# Altium schematic symbol library Projector_TI.SchLib: 6 symbols
Pins are listed as number, name and electrical type; pins without a type are passive.

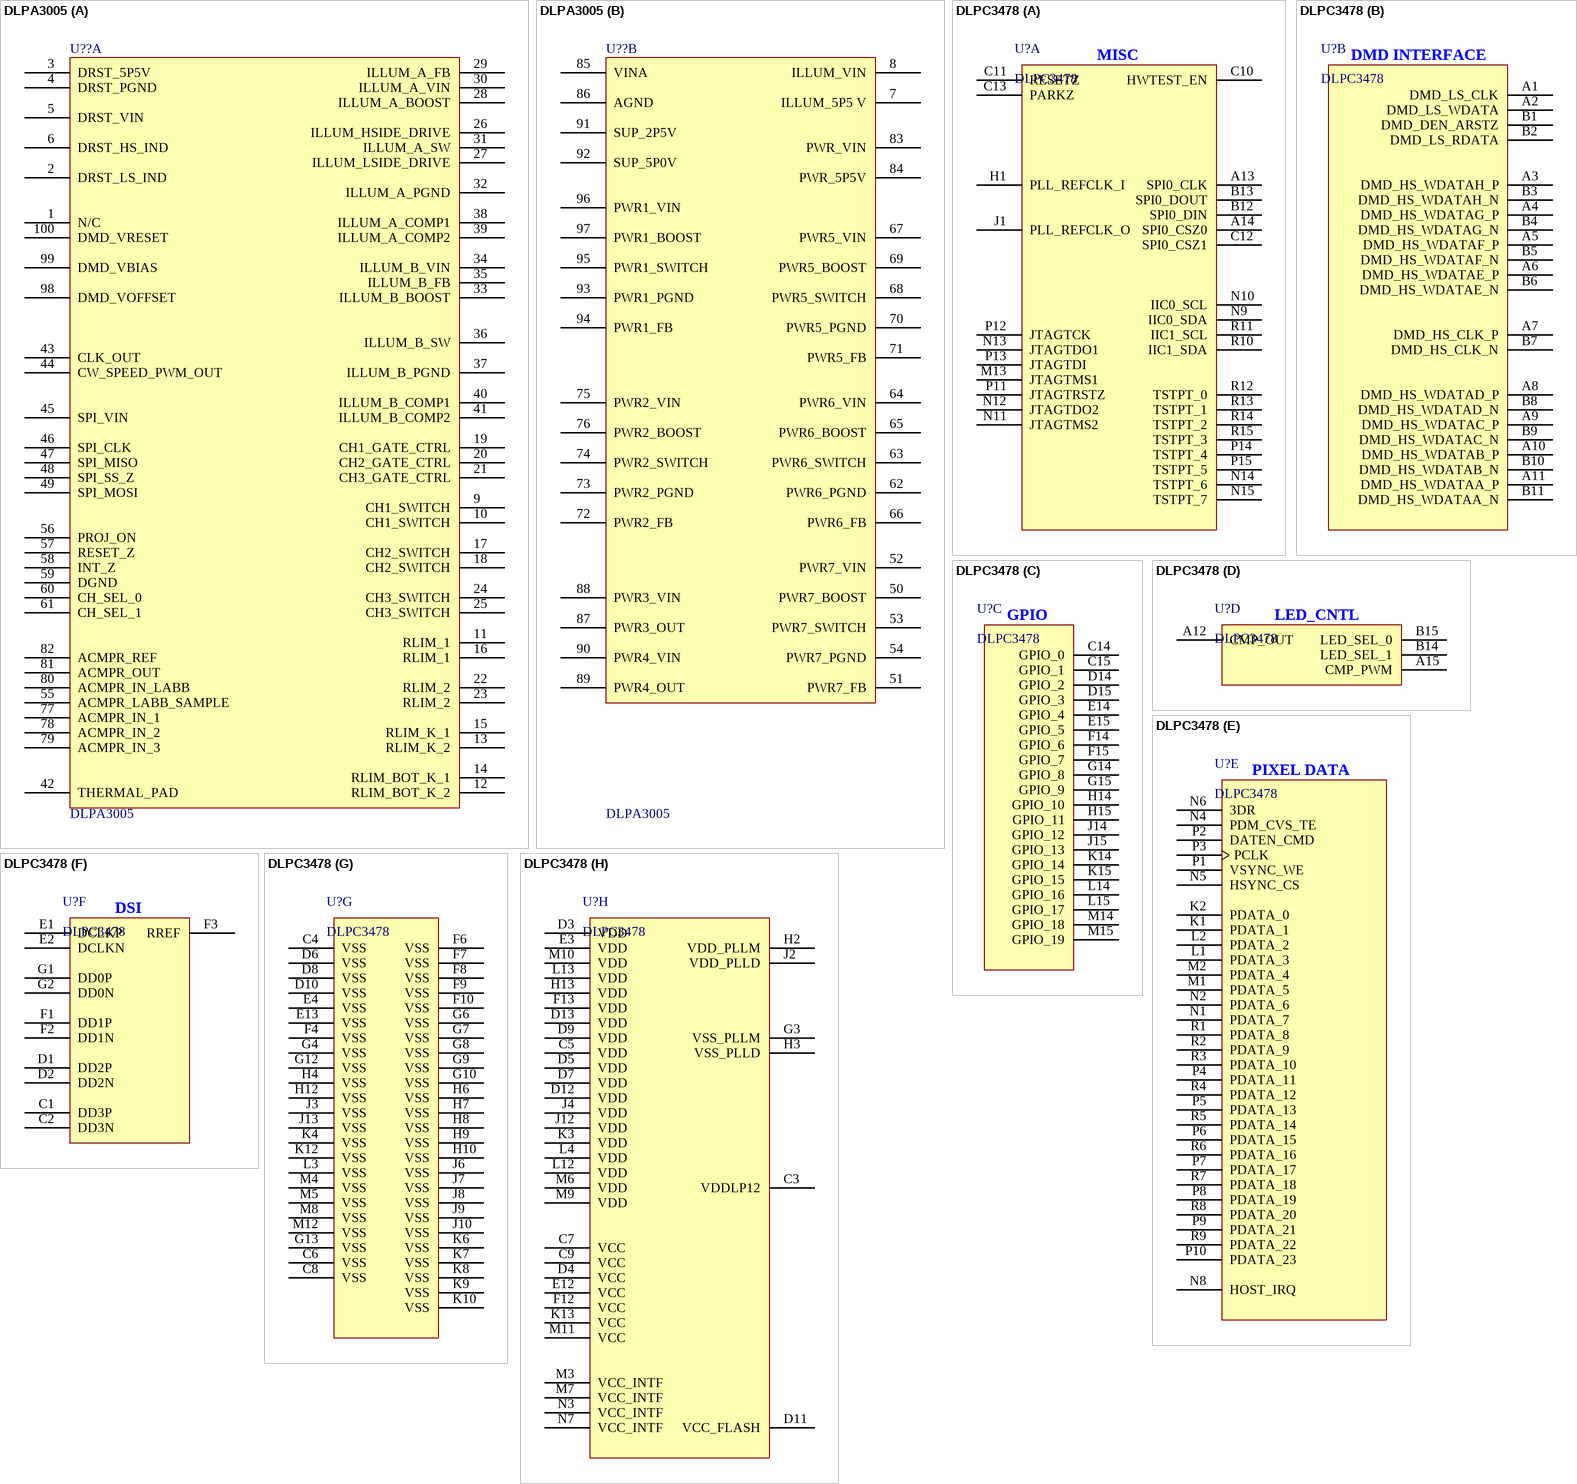
[diagram p0: symbols DLPA3005 to DLPC3478]

## DLPA3005
designator U??
DLPA3005 PMIC and High-Current LED Driver IC
footprint LQFP-100_14x14mm_P0.5mm (TSQFP, 100-Leads, Body 14.00x14.00mm, Pitch 0.50mm, IPC Medium Density)
part A pins: 1 N/C, 2 DRST_LS_IND, 3 DRST_5P5V, 4 DRST_PGND, 5 DRST_VIN, 6 DRST_HS_IND, 9 CH1_SWITCH, 10 CH1_SWITCH, 11 RLIM_1, 12 RLIM_BOT_K_2, 13 RLIM_K_2, 14 RLIM_BOT_K_1, 15 RLIM_K_1, 16 RLIM_1, 17 CH2_SWITCH, 18 CH2_SWITCH, 19 CH1_GATE_CTRL, 20 CH2_GATE_CTRL, 21 CH3_GATE_CTRL, 22 RLIM_2, 23 RLIM_2, 24 CH3_SWITCH, 25 CH3_SWITCH, 26 ILLUM_HSIDE_DRIVE, 27 ILLUM_LSIDE_DRIVE, 28 ILLUM_A_BOOST, 29 ILLUM_A_FB, 30 ILLUM_A_VIN, 31 ILLUM_A_SW, 32 ILLUM_A_PGND, 33 ILLUM_B_BOOST, 34 ILLUM_B_VIN, 35 ILLUM_B_FB, 36 ILLUM_B_SW, 37 ILLUM_B_PGND, 38 ILLUM_A_COMP1, 39 ILLUM_A_COMP2, 40 ILLUM_B_COMP1, 41 ILLUM_B_COMP2, 42 THERMAL_PAD, 43 CLK_OUT, 44 CW_SPEED_PWM_OUT, 45 SPI_VIN, 46 SPI_CLK, 47 SPI_MISO, 48 SPI_SS_Z, 49 SPI_MOSI, 55 ACMPR_LABB_SAMPLE, 56 PROJ_ON, 57 RESET_Z, 58 INT_Z, 59 DGND, 60 CH_SEL_0, 61 CH_SEL_1, 77 ACMPR_IN_1, 78 ACMPR_IN_2, 79 ACMPR_IN_3, 80 ACMPR_IN_LABB, 81 ACMPR_OUT, 82 ACMPR_REF, 98 DMD_VOFFSET, 99 DMD_VBIAS, 100 DMD_VRESET
part B pins: 7 ILLUM_5P5 V, 8 ILLUM_VIN, 50 PWR7_BOOST, 51 PWR7_FB, 52 PWR7_VIN, 53 PWR7_SWITCH, 54 PWR7_PGND, 62 PWR6_PGND, 63 PWR6_SWITCH, 64 PWR6_VIN, 65 PWR6_BOOST, 66 PWR6_FB, 67 PWR5_VIN, 68 PWR5_SWITCH, 69 PWR5_BOOST, 70 PWR5_PGND, 71 PWR5_FB, 72 PWR2_FB, 73 PWR2_PGND, 74 PWR2_SWITCH, 75 PWR2_VIN, 76 PWR2_BOOST, 83 PWR_VIN, 84 PWR_5P5V, 85 VINA, 86 AGND, 87 PWR3_OUT, 88 PWR3_VIN, 89 PWR4_OUT, 90 PWR4_VIN, 91 SUP_2P5V, 92 SUP_5P0V, 93 PWR1_PGND, 94 PWR1_FB, 95 PWR1_SWITCH, 96 PWR1_VIN, 97 PWR1_BOOST

## DLPC3478
designator U?
DLPC3478 Display and Light Controller
footprint BGA_13x13mm_P0.8mm_201P (BGA, 80-Leads, Body 13.00x13.00mmx1.00mm, Pitch 0.80mm)
part A pins: A13 SPI0_CLK, A14 SPI0_CSZ0, B12 SPI0_DIN, B13 SPI0_DOUT, C10 HWTEST_EN, C11 RESETZ, C12 SPI0_CSZ1, C13 PARKZ, H1 PLL_REFCLK_I, J1 PLL_REFCLK_O, M13 JTAGTMS1, N9 IIC0_SDA, N10 IIC0_SCL, N11 JTAGTMS2, N12 JTAGTDO2, N13 JTAGTDO1, N14 TSTPT_6, N15 TSTPT_7, P11 JTAGTRSTZ, P12 JTAGTCK, P13 JTAGTDI, P14 TSTPT_4, P15 TSTPT_5, R10 IIC1_SDA, R11 IIC1_SCL, R12 TSTPT_0, R13 TSTPT_1, R14 TSTPT_2, R15 TSTPT_3
part B pins: A1 DMD_LS_CLK, A2 DMD_LS_WDATA, A3 DMD_HS_WDATAH_P, A4 DMD_HS_WDATAG_P, A5 DMD_HS_WDATAF_P, A6 DMD_HS_WDATAE_P, A7 DMD_HS_CLK_P, A8 DMD_HS_WDATAD_P, A9 DMD_HS_WDATAC_P, A10 DMD_HS_WDATAB_P, A11 DMD_HS_WDATAA_P, B1 DMD_DEN_ARSTZ, B2 DMD_LS_RDATA, B3 DMD_HS_WDATAH_N, B4 DMD_HS_WDATAG_N, B5 DMD_HS_WDATAF_N, B6 DMD_HS_WDATAE_N, B7 DMD_HS_CLK_N, B8 DMD_HS_WDATAD_N, B9 DMD_HS_WDATAC_N, B10 DMD_HS_WDATAB_N, B11 DMD_HS_WDATAA_N
part C pins: C14 GPIO_0, C15 GPIO_1, D14 GPIO_2, D15 GPIO_3, E14 GPIO_4, E15 GPIO_5, F14 GPIO_6, F15 GPIO_7, G14 GPIO_8, G15 GPIO_9, H14 GPIO_10, H15 GPIO_11, J14 GPIO_12, J15 GPIO_13, K14 GPIO_14, K15 GPIO_15, L14 GPIO_16, L15 GPIO_17, M14 GPIO_18, M15 GPIO_19
part D pins: A12 CMP_OUT, A15 CMP_PWM, B14 LED_SEL_1, B15 LED_SEL_0
part E pins: K1 PDATA_1, K2 PDATA_0, L1 PDATA_3, L2 PDATA_2, M1 PDATA_5, M2 PDATA_4, N1 PDATA_7, N2 PDATA_6, N4 PDM_CVS_TE, N5 HSYNC_CS, N6 3DR, N8 HOST_IRQ, P1 VSYNC_WE, P2 DATEN_CMD, P3 PCLK, P4 PDATA_11, P5 PDATA_13, P6 PDATA_15, P7 PDATA_17, P8 PDATA_19, P9 PDATA_21, P10 PDATA_23, R1 PDATA_8, R2 PDATA_9, R3 PDATA_10, R4 PDATA_12, R5 PDATA_14, R6 PDATA_16, R7 PDATA_18, R8 PDATA_20, R9 PDATA_22
part F pins: C1 DD3P, C2 DD3N, D1 DD2P, D2 DD2N, E1 DCLKP, E2 DCLKN, F1 DD1P, F2 DD1N, F3 RREF, G1 DD0P, G2 DD0N
part G pins: C4 VSS, C6 VSS, C8 VSS, D6 VSS, D8 VSS, D10 VSS, E4 VSS, E13 VSS, F4 VSS, F6 VSS, F7 VSS, F8 VSS, F9 VSS, F10 VSS, G4 VSS, G6 VSS, G7 VSS, G8 VSS, G9 VSS, G10 VSS, G12 VSS, G13 VSS, H4 VSS, H6 VSS, H7 VSS, H8 VSS, H9 VSS, H10 VSS, H12 VSS, J3 VSS, J6 VSS, J7 VSS, J8 VSS, J9 VSS, J10 VSS, J13 VSS, K4 VSS, K6 VSS, K7 VSS, K8 VSS, K9 VSS, K10 VSS, K12 VSS, L3 VSS, M4 VSS, M5 VSS, M8 VSS, M12 VSS
part H pins: C3 VDDLP12, C5 VDD, C7 VCC, C9 VCC, D3 VDD, D4 VCC, D5 VDD, D7 VDD, D9 VDD, D11 VCC_FLASH, D12 VDD, D13 VDD, E3 VDD, E12 VCC, F12 VCC, F13 VDD, G3 VSS_PLLM, H2 VDD_PLLM, H3 VSS_PLLD, H13 VDD, J2 VDD_PLLD, J4 VDD, J12 VDD, K3 VDD, K13 VCC, L4 VDD, L12 VDD, L13 VDD, M3 VCC_INTF, M6 VDD, M7 VCC_INTF, M9 VDD, M10 VDD, M11 VCC, N3 VCC_INTF, N7 VCC_INTF
part A text: MISC
part B text: DMD INTERFACE
part C text: GPIO
part D text: LED_CNTL
part E text: PIXEL DATA
part F text: DSI

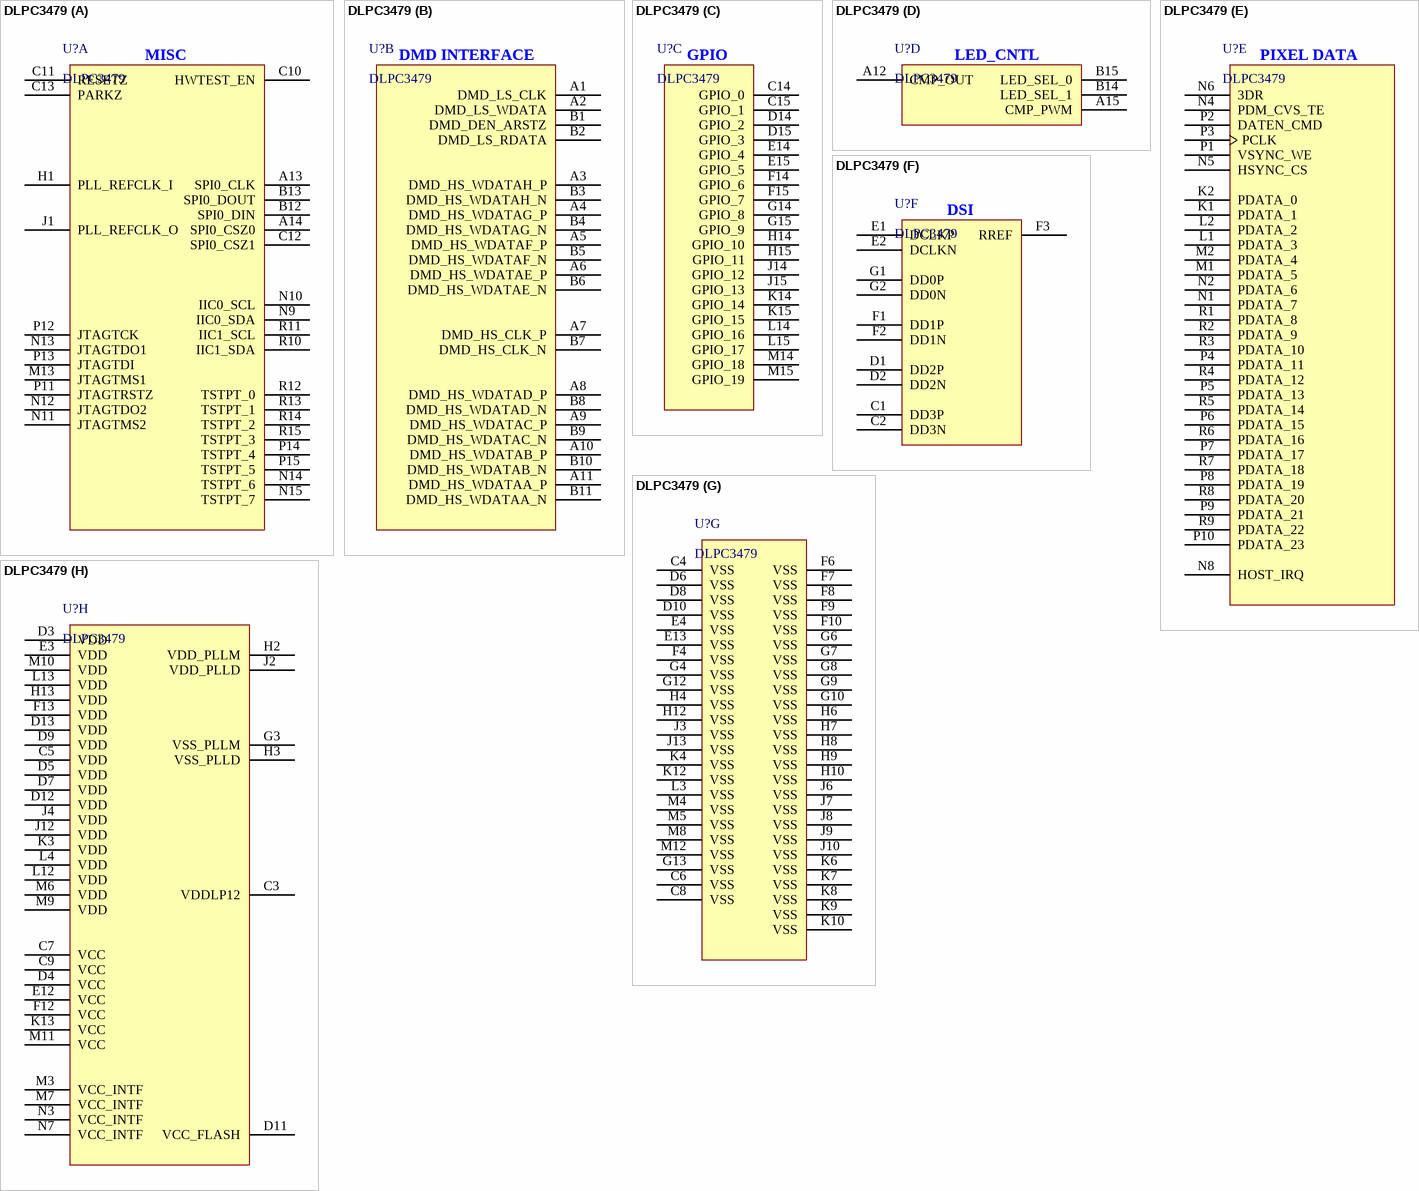
[diagram p1: symbol DLPC3479]

## DLPC3479
designator U?
DLPC3479 Display and Light Controller
footprint BGA_13x13mm_P0.8mm_201P (BGA, 80-Leads, Body 13.00x13.00mmx1.00mm, Pitch 0.80mm)
part A pins: A13 SPI0_CLK, A14 SPI0_CSZ0, B12 SPI0_DIN, B13 SPI0_DOUT, C10 HWTEST_EN, C11 RESETZ, C12 SPI0_CSZ1, C13 PARKZ, H1 PLL_REFCLK_I, J1 PLL_REFCLK_O, M13 JTAGTMS1, N9 IIC0_SDA, N10 IIC0_SCL, N11 JTAGTMS2, N12 JTAGTDO2, N13 JTAGTDO1, N14 TSTPT_6, N15 TSTPT_7, P11 JTAGTRSTZ, P12 JTAGTCK, P13 JTAGTDI, P14 TSTPT_4, P15 TSTPT_5, R10 IIC1_SDA, R11 IIC1_SCL, R12 TSTPT_0, R13 TSTPT_1, R14 TSTPT_2, R15 TSTPT_3
part B pins: A1 DMD_LS_CLK, A2 DMD_LS_WDATA, A3 DMD_HS_WDATAH_P, A4 DMD_HS_WDATAG_P, A5 DMD_HS_WDATAF_P, A6 DMD_HS_WDATAE_P, A7 DMD_HS_CLK_P, A8 DMD_HS_WDATAD_P, A9 DMD_HS_WDATAC_P, A10 DMD_HS_WDATAB_P, A11 DMD_HS_WDATAA_P, B1 DMD_DEN_ARSTZ, B2 DMD_LS_RDATA, B3 DMD_HS_WDATAH_N, B4 DMD_HS_WDATAG_N, B5 DMD_HS_WDATAF_N, B6 DMD_HS_WDATAE_N, B7 DMD_HS_CLK_N, B8 DMD_HS_WDATAD_N, B9 DMD_HS_WDATAC_N, B10 DMD_HS_WDATAB_N, B11 DMD_HS_WDATAA_N
part C pins: C14 GPIO_0, C15 GPIO_1, D14 GPIO_2, D15 GPIO_3, E14 GPIO_4, E15 GPIO_5, F14 GPIO_6, F15 GPIO_7, G14 GPIO_8, G15 GPIO_9, H14 GPIO_10, H15 GPIO_11, J14 GPIO_12, J15 GPIO_13, K14 GPIO_14, K15 GPIO_15, L14 GPIO_16, L15 GPIO_17, M14 GPIO_18, M15 GPIO_19
part D pins: A12 CMP_OUT, A15 CMP_PWM, B14 LED_SEL_1, B15 LED_SEL_0
part E pins: K1 PDATA_1, K2 PDATA_0, L1 PDATA_3, L2 PDATA_2, M1 PDATA_5, M2 PDATA_4, N1 PDATA_7, N2 PDATA_6, N4 PDM_CVS_TE, N5 HSYNC_CS, N6 3DR, N8 HOST_IRQ, P1 VSYNC_WE, P2 DATEN_CMD, P3 PCLK, P4 PDATA_11, P5 PDATA_13, P6 PDATA_15, P7 PDATA_17, P8 PDATA_19, P9 PDATA_21, P10 PDATA_23, R1 PDATA_8, R2 PDATA_9, R3 PDATA_10, R4 PDATA_12, R5 PDATA_14, R6 PDATA_16, R7 PDATA_18, R8 PDATA_20, R9 PDATA_22
part F pins: C1 DD3P, C2 DD3N, D1 DD2P, D2 DD2N, E1 DCLKP, E2 DCLKN, F1 DD1P, F2 DD1N, F3 RREF, G1 DD0P, G2 DD0N
part G pins: C4 VSS, C6 VSS, C8 VSS, D6 VSS, D8 VSS, D10 VSS, E4 VSS, E13 VSS, F4 VSS, F6 VSS, F7 VSS, F8 VSS, F9 VSS, F10 VSS, G4 VSS, G6 VSS, G7 VSS, G8 VSS, G9 VSS, G10 VSS, G12 VSS, G13 VSS, H4 VSS, H6 VSS, H7 VSS, H8 VSS, H9 VSS, H10 VSS, H12 VSS, J3 VSS, J6 VSS, J7 VSS, J8 VSS, J9 VSS, J10 VSS, J13 VSS, K4 VSS, K6 VSS, K7 VSS, K8 VSS, K9 VSS, K10 VSS, K12 VSS, L3 VSS, M4 VSS, M5 VSS, M8 VSS, M12 VSS
part H pins: C3 VDDLP12, C5 VDD, C7 VCC, C9 VCC, D3 VDD, D4 VCC, D5 VDD, D7 VDD, D9 VDD, D11 VCC_FLASH, D12 VDD, D13 VDD, E3 VDD, E12 VCC, F12 VCC, F13 VDD, G3 VSS_PLLM, H2 VDD_PLLM, H3 VSS_PLLD, H13 VDD, J2 VDD_PLLD, J4 VDD, J12 VDD, K3 VDD, K13 VCC, L4 VDD, L12 VDD, L13 VDD, M3 VCC_INTF, M6 VDD, M7 VCC_INTF, M9 VDD, M10 VDD, M11 VCC, N3 VCC_INTF, N7 VCC_INTF
part A text: MISC
part B text: DMD INTERFACE
part C text: GPIO
part D text: LED_CNTL
part E text: PIXEL DATA
part F text: DSI

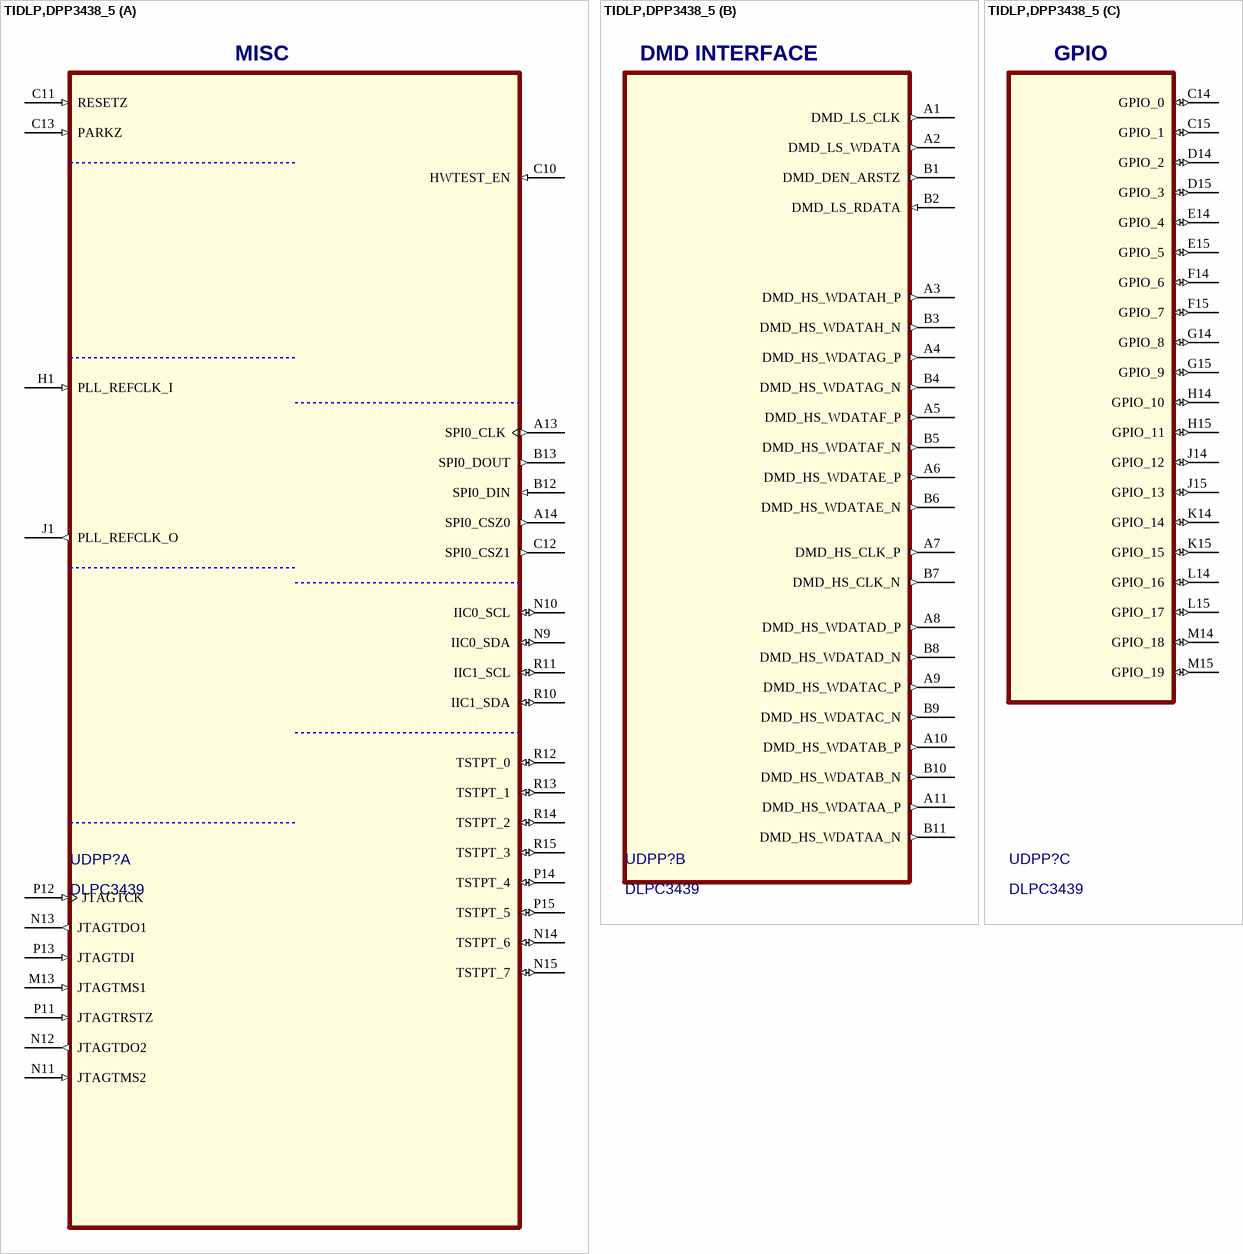
[diagram p2: symbol TIDLP,DPP3438_5]

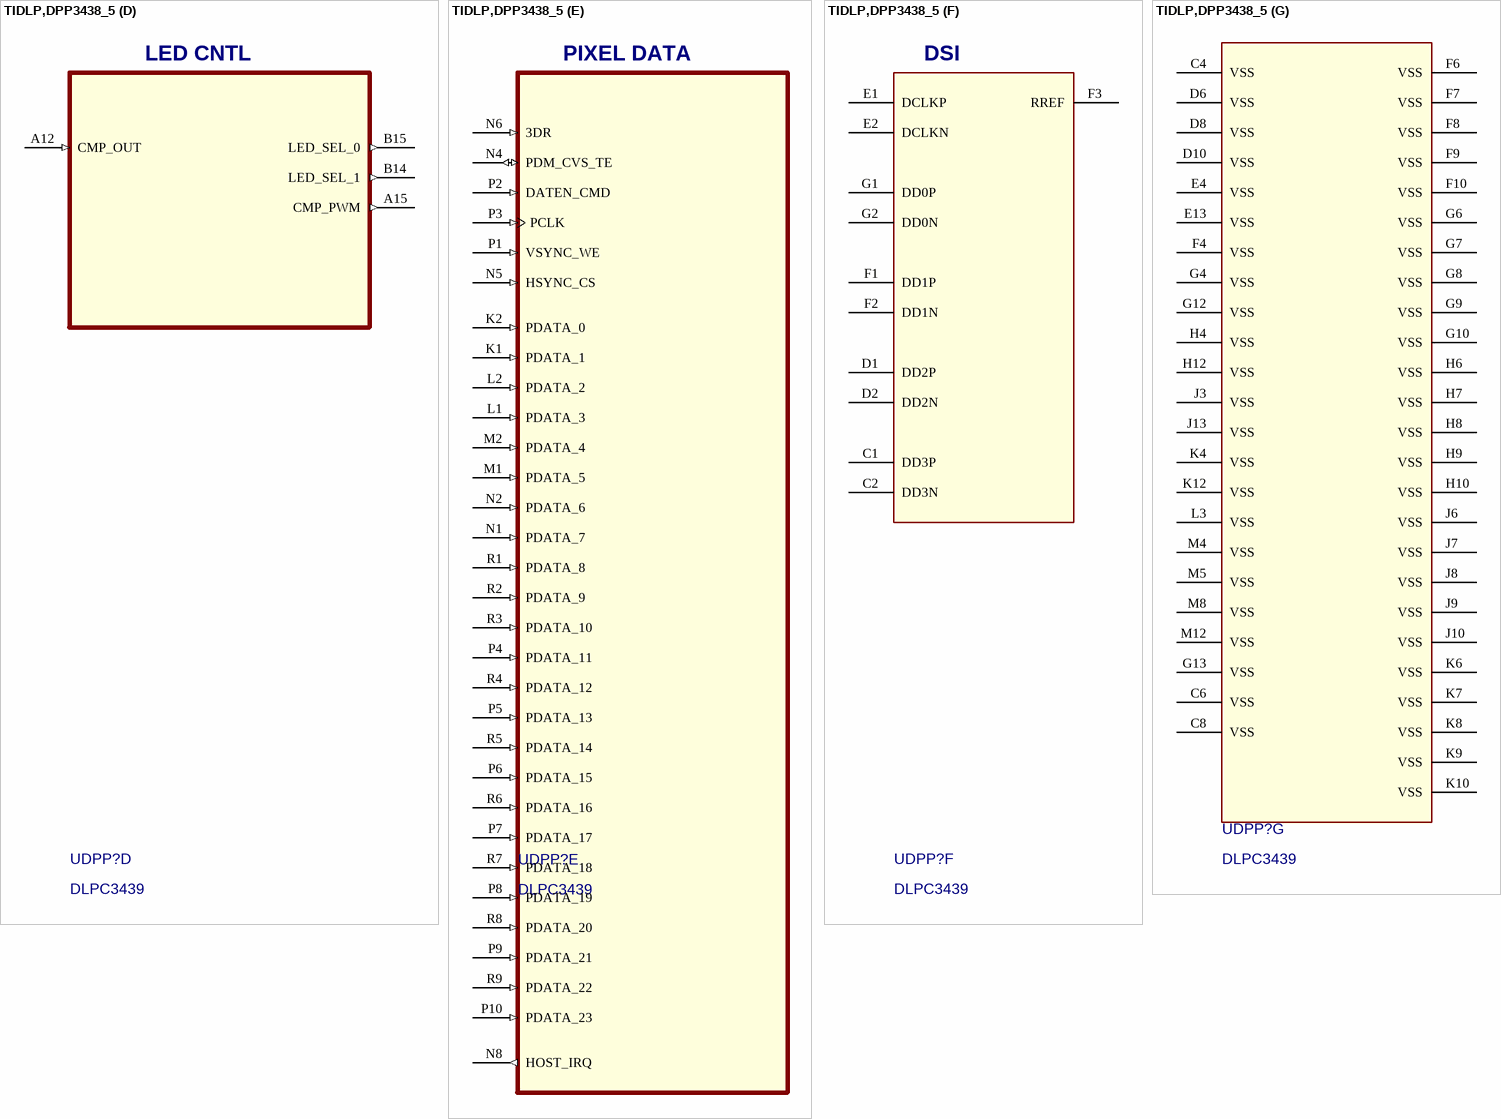
[diagram p3: symbol TIDLP,DPP3438_5]

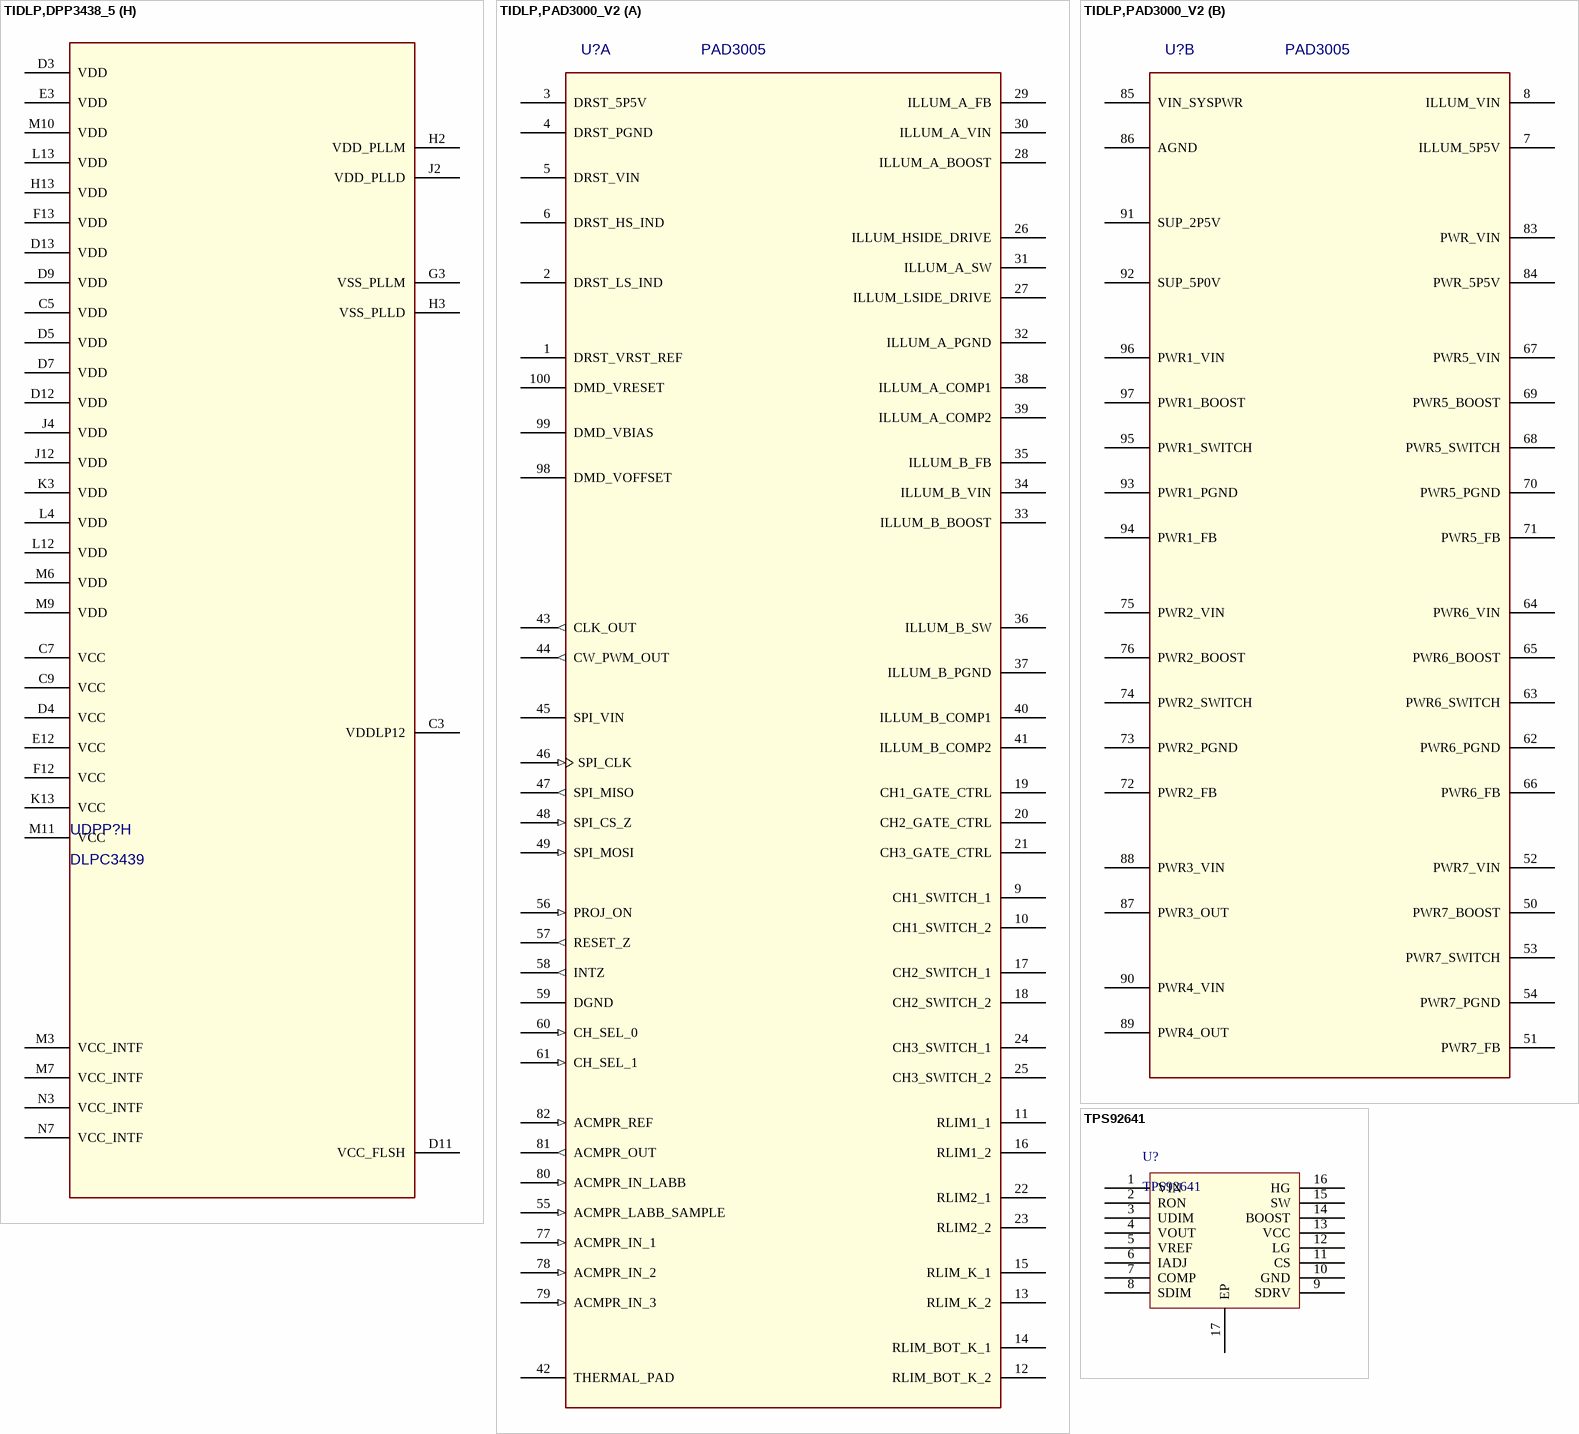
[diagram p4: symbols TIDLP,DPP3438_5 to TPS92641]

## TIDLP,DPP3438_5
designator UDPP?, comment DLPC3439
Install: Y; SPLIT_INST: TRUE; SWAP_INFO: (S1+S2+S3+S4+S5+S6+S7+S8+S9); Index PN: 1260; DigiReel: ---; P/D_NUM: 2512737-0092; Vendor: Texas Instruments; Package: Slave; DigiKey: ---; Part Number: 2512737-0092; MFG: Texas Instruments; Lead Style: SMT; Type: dlp; Family: processor
footprint BGA_13x13mm_P0.8mm_201P (BGA, 80-Leads, Body 13.00x13.00mmx1.00mm, Pitch 0.80mm)
part A pins: A13 SPI0_CLK (out), A14 SPI0_CSZ0 (out), B12 SPI0_DIN (in), B13 SPI0_DOUT (out), C10 HWTEST_EN (in), C11 RESETZ (in), C12 SPI0_CSZ1 (out), C13 PARKZ (in), H1 PLL_REFCLK_I (in), J1 PLL_REFCLK_O (out), M13 JTAGTMS1 (in), N9 IIC0_SDA (io), N10 IIC0_SCL (io), N11 JTAGTMS2 (in), N12 JTAGTDO2 (out), N13 JTAGTDO1 (out), N14 TSTPT_6 (io), N15 TSTPT_7 (io), P11 JTAGTRSTZ (in), P12 JTAGTCK (in), P13 JTAGTDI (in), P14 TSTPT_4 (io), P15 TSTPT_5 (io), R10 IIC1_SDA (io), R11 IIC1_SCL (io), R12 TSTPT_0 (io), R13 TSTPT_1 (io), R14 TSTPT_2 (io), R15 TSTPT_3 (io)
part B pins: A1 DMD_LS_CLK (out), A2 DMD_LS_WDATA (out), A3 DMD_HS_WDATAH_P (out), A4 DMD_HS_WDATAG_P (out), A5 DMD_HS_WDATAF_P (out), A6 DMD_HS_WDATAE_P (out), A7 DMD_HS_CLK_P (out), A8 DMD_HS_WDATAD_P (out), A9 DMD_HS_WDATAC_P (out), A10 DMD_HS_WDATAB_P (out), A11 DMD_HS_WDATAA_P (out), B1 DMD_DEN_ARSTZ (out), B2 DMD_LS_RDATA (in), B3 DMD_HS_WDATAH_N (out), B4 DMD_HS_WDATAG_N (out), B5 DMD_HS_WDATAF_N (out), B6 DMD_HS_WDATAE_N (out), B7 DMD_HS_CLK_N (out), B8 DMD_HS_WDATAD_N (out), B9 DMD_HS_WDATAC_N (out), B10 DMD_HS_WDATAB_N (out), B11 DMD_HS_WDATAA_N (out)
part C pins: C14 GPIO_0 (io), C15 GPIO_1 (io), D14 GPIO_2 (io), D15 GPIO_3 (io), E14 GPIO_4 (io), E15 GPIO_5 (io), F14 GPIO_6 (io), F15 GPIO_7 (io), G14 GPIO_8 (io), G15 GPIO_9 (io), H14 GPIO_10 (io), H15 GPIO_11 (io), J14 GPIO_12 (io), J15 GPIO_13 (io), K14 GPIO_14 (io), K15 GPIO_15 (io), L14 GPIO_16 (io), L15 GPIO_17 (io), M14 GPIO_18 (io), M15 GPIO_19 (io)
part D pins: A12 CMP_OUT (in), A15 CMP_PWM (out), B14 LED_SEL_1 (out), B15 LED_SEL_0 (out)
part E pins: K1 PDATA_1 (in), K2 PDATA_0 (in), L1 PDATA_3 (in), L2 PDATA_2 (in), M1 PDATA_5 (in), M2 PDATA_4 (in), N1 PDATA_7 (in), N2 PDATA_6 (in), N4 PDM_CVS_TE (io), N5 HSYNC_CS (in), N6 3DR (in), N8 HOST_IRQ (out), P1 VSYNC_WE (in), P2 DATEN_CMD (in), P3 PCLK (in), P4 PDATA_11 (in), P5 PDATA_13 (in), P6 PDATA_15 (in), P7 PDATA_17 (in), P8 PDATA_19 (in), P9 PDATA_21 (in), P10 PDATA_23 (in), R1 PDATA_8 (in), R2 PDATA_9 (in), R3 PDATA_10 (in), R4 PDATA_12 (in), R5 PDATA_14 (in), R6 PDATA_16 (in), R7 PDATA_18 (in), R8 PDATA_20 (in), R9 PDATA_22 (in)
part F pins: C1 DD3P, C2 DD3N, D1 DD2P, D2 DD2N, E1 DCLKP, E2 DCLKN, F1 DD1P, F2 DD1N, F3 RREF (power), G1 DD0P, G2 DD0N
part G pins: C4 VSS (power), C6 VSS (power), C8 VSS (power), D6 VSS (power), D8 VSS (power), D10 VSS (power), E4 VSS (power), E13 VSS (power), F4 VSS (power), F6 VSS (power), F7 VSS (power), F8 VSS (power), F9 VSS (power), F10 VSS (power), G4 VSS (power), G6 VSS (power), G7 VSS (power), G8 VSS (power), G9 VSS (power), G10 VSS (power), G12 VSS (power), G13 VSS (power), H4 VSS (power), H6 VSS (power), H7 VSS (power), H8 VSS (power), H9 VSS (power), H10 VSS (power), H12 VSS (power), J3 VSS (power), J6 VSS (power), J7 VSS (power), J8 VSS (power), J9 VSS (power), J10 VSS (power), J13 VSS (power), K4 VSS (power), K6 VSS (power), K7 VSS (power), K8 VSS (power), K9 VSS (power), K10 VSS (power), K12 VSS (power), L3 VSS (power), M4 VSS (power), M5 VSS (power), M8 VSS (power), M12 VSS (power)
part H pins: C3 VDDLP12 (power), C5 VDD (power), C7 VCC (power), C9 VCC (power), D3 VDD (power), D4 VCC (power), D5 VDD (power), D7 VDD (power), D9 VDD (power), D11 VCC_FLSH (power), D12 VDD (power), D13 VDD (power), E3 VDD (power), E12 VCC (power), F12 VCC (power), F13 VDD (power), G3 VSS_PLLM (power), H2 VDD_PLLM (power), H3 VSS_PLLD (power), H13 VDD (power), J2 VDD_PLLD (power), J4 VDD (power), J12 VDD (power), K3 VDD (power), K13 VCC (power), L4 VDD (power), L12 VDD (power), L13 VDD (power), M3 VCC_INTF (power), M6 VDD (power), M7 VCC_INTF (power), M9 VDD (power), M10 VDD (power), M11 VCC (power), N3 VCC_INTF (power), N7 VCC_INTF (power)
part A text: MISC
part B text: DMD INTERFACE
part C text: GPIO
part D text: LED CNTL
part E text: PIXEL DATA
part F text: DSI

## TIDLP,PAD3000_V2
designator U?, comment Part Number: PAD3005  (hidden comment: DLPA3005)
Part Specific: IC PMIC LED DRIVER; SPLIT_INST: TRUE; SWAP_INFO: (S1+S2); MFG: Texas Instruments; Install: Y; Pin Cnt: 100; Vendor: Texas Instruments
footprint LQFP-100_14x14mm_P0.5mm (TSQFP, 100-Leads, Body 14.00x14.00mm, Pitch 0.50mm, IPC Medium Density)
part A pins: 1 DRST_VRST_REF (power), 2 DRST_LS_IND (power), 3 DRST_5P5V (power), 4 DRST_PGND (power), 5 DRST_VIN (power), 6 DRST_HS_IND (power), 9 CH1_SWITCH_1 (power), 10 CH1_SWITCH_2 (power), 11 RLIM1_1 (power), 12 RLIM_BOT_K_2 (power), 13 RLIM_K_2 (power), 14 RLIM_BOT_K_1 (power), 15 RLIM_K_1 (power), 16 RLIM1_2 (power), 17 CH2_SWITCH_1 (power), 18 CH2_SWITCH_2 (power), 19 CH1_GATE_CTRL (power), 20 CH2_GATE_CTRL (power), 21 CH3_GATE_CTRL (power), 22 RLIM2_1 (power), 23 RLIM2_2 (power), 24 CH3_SWITCH_1 (power), 25 CH3_SWITCH_2 (power), 26 ILLUM_HSIDE_DRIVE (power), 27 ILLUM_LSIDE_DRIVE (power), 28 ILLUM_A_BOOST (power), 29 ILLUM_A_FB (power), 30 ILLUM_A_VIN (power), 31 ILLUM_A_SW (power), 32 ILLUM_A_PGND (power), 33 ILLUM_B_BOOST (power), 34 ILLUM_B_VIN (power), 35 ILLUM_B_FB (power), 36 ILLUM_B_SW (power), 37 ILLUM_B_PGND (power), 38 ILLUM_A_COMP1 (power), 39 ILLUM_A_COMP2 (power), 40 ILLUM_B_COMP1 (power), 41 ILLUM_B_COMP2 (power), 42 THERMAL_PAD (power), 43 CLK_OUT (out), 44 CW_PWM_OUT (out), 45 SPI_VIN (power), 46 SPI_CLK (in), 47 SPI_MISO (out), 48 SPI_CS_Z (in), 49 SPI_MOSI (in), 55 ACMPR_LABB_SAMPLE (in), 56 PROJ_ON (in), 57 RESET_Z (out), 58 INTZ (out), 59 DGND (power), 60 CH_SEL_0 (in), 61 CH_SEL_1 (in), 77 ACMPR_IN_1 (in), 78 ACMPR_IN_2 (in), 79 ACMPR_IN_3 (in), 80 ACMPR_IN_LABB (in), 81 ACMPR_OUT (out), 82 ACMPR_REF (in), 98 DMD_VOFFSET (power), 99 DMD_VBIAS (power), 100 DMD_VRESET (power)
part B pins: 7 ILLUM_5P5V (power), 8 ILLUM_VIN (power), 50 PWR7_BOOST (power), 51 PWR7_FB (power), 52 PWR7_VIN (power), 53 PWR7_SWITCH (power), 54 PWR7_PGND (power), 62 PWR6_PGND (power), 63 PWR6_SWITCH (power), 64 PWR6_VIN (power), 65 PWR6_BOOST (power), 66 PWR6_FB (power), 67 PWR5_VIN (power), 68 PWR5_SWITCH (power), 69 PWR5_BOOST (power), 70 PWR5_PGND (power), 71 PWR5_FB (power), 72 PWR2_FB (power), 73 PWR2_PGND (power), 74 PWR2_SWITCH (power), 75 PWR2_VIN (power), 76 PWR2_BOOST (power), 83 PWR_VIN (power), 84 PWR_5P5V (power), 85 VIN_SYSPWR (power), 86 AGND (power), 87 PWR3_OUT (power), 88 PWR3_VIN (power), 89 PWR4_OUT (power), 90 PWR4_VIN (power), 91 SUP_2P5V (power), 92 SUP_5P0V (power), 93 PWR1_PGND (power), 94 PWR1_FB (power), 95 PWR1_SWITCH (power), 96 PWR1_VIN (power), 97 PWR1_BOOST (power)

## TPS92641
designator U?
TPS92641 于精密调光 LED 驱动器的同步降压控制器
footprint SSOP-16-1EP_4.4x5mm_P0.65_EP3.4x5mm (TSOP, 16-Leads, Body 5.00x4.40mm, Pitch 0.65mm, Thermal Pad 3.30x3.30mm, IPC Medium Density)
pins: 1 VIN, 2 RON, 3 UDIM, 4 VOUT, 5 VREF, 6 IADJ, 7 COMP, 8 SDIM, 9 SDRV, 10 GND, 11 CS, 12 LG, 13 VCC, 14 BOOST, 15 SW, 16 HG, 17 EP